# Altium footprint library Optoisolator.PcbLib: 4 footprints
Each footprint in its own frame and in the unit in brackets; x right, y up, seen from the top. Pads: shape width x height; smd on the part's side, far side on the other; paste and mask are expansions set on the pad; w line width, h text height; cw(c..) or ccw(c..) is an arc to the next point about the centre after c.
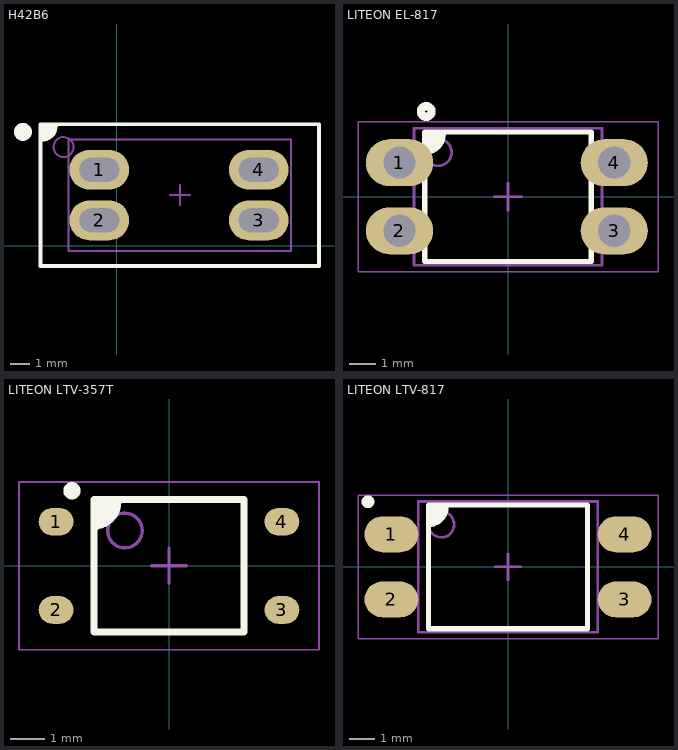
[diagram p0: the footprints below, top view; thin cyan lines are the x and y axes]

## H42B6 [mm]
pads (4):
  oval 3x2 hole 2 slot 1.2 at 90 deg: 1(-0.867,3.81) 2(-0.867,1.27) 3(7.134,1.27) 4(7.134,3.81)
Top Overlay:
  circle w0.5: c-4.699,5.715 r0.2
  region: -3.735,6.096 -3.048,6.096 -3.048,5.715 -3.429,5.334 -3.735,5.334
  lines w0.2: -3.735,5.334 ccw(c-3.735,6.021) -3.048,6.021 ; -3.81,-1.016 10.16,-1.016 10.16,6.096 -3.81,6.096 -3.81,-1.016
Mechanical 13:
  circle w0.1: c-2.667,4.953 r0.5
  lines w0.1: -2.413,-0.254 8.763,-0.254 8.763,5.334 -2.413,5.334 -2.413,-0.254
Mechanical 15:
  lines w0.05: -2.413,-0.26 8.763,-0.26 8.763,5.34 -2.413,5.34 -2.413,-0.26
  lines w0.1: 2.675,2.54 3.675,2.54 ; 3.175,2.04 3.175,3.04
3D body "User Library-UOptocoupler QVA21114.STEP": height 10.89, standoff -9.4, extent -3,-0.635 9.35,5.815

## LITEON EL-817 [mm] "SOP, 4-Leads, Body 4.60x6.50mm, Pitch 2.54mm, IPC Medium Density"
height 4.35
pads (4):
  oval 2.5x1.75 hole 1.2: 1(-4.042,1.27) 2(-4.042,-1.27) 3(3.959,-1.27) 4(3.959,1.27)
Top Overlay:
  circle w0.3: c-3.048,3.175 r0.2
  region: -3.1,2.413 -2.413,2.413 -2.413,2.032 -2.794,1.651 -3.1,1.651
  lines w0.2: -3.1,1.651 ccw(c-3.1,2.338) -2.413,2.338 ; -3.1,-2.413 3.1,-2.413 3.1,2.413 -3.1,2.413 -3.1,-2.413
Mechanical 13:
  circle w0.1: c-2.6,1.65 r0.5
  lines w0.1: -3.5,-2.55 3.5,-2.55 3.5,2.55 -3.5,2.55 -3.5,-2.55
Mechanical 15:
  lines w0.05: -5.588,-2.8 5.588,-2.8 5.588,2.8 -5.588,2.8 -5.588,-2.8
  lines w0.1: -0.5,0 0.5,0 ; 0,-0.5 0,0.5
3D body "User Library-DIP4.STEP": height 3.55, standoff -2.75, extent -3.935,-2.297 3.935,2.297

## LITEON LTV-357T [mm] "SOP, 4-Leads, Body 3.85x4.4mm, Pitch 2.54mm, IPC Medium Density"
height 2.1
pads (4):
  oval 1x0.8 smd: 1(-3.25,1.27) 2(-3.25,-1.27) 3(3.25,-1.27) 4(3.25,1.27)
Top Overlay:
  circle w0.25: c-2.794,2.159 r0.125
  region: -2.159,1.905 -1.472,1.905 -1.472,1.524 -1.853,1.143 -2.159,1.143
  lines w0.2: -2.159,1.143 ccw(c-2.159,1.83) -1.472,1.83 ; -2.159,-1.905 2.159,-1.905 2.159,1.905 -2.159,1.905 -2.159,-1.905
Mechanical 13:
  circle w0.1: c-1.27,1.016 r0.5
  lines w0.1: -2.159,-1.905 2.159,-1.905 2.159,1.905 -2.159,1.905 -2.159,-1.905
Mechanical 15:
  lines w0.05: -4.318,-2.413 4.318,-2.413 4.318,2.413 -4.318,2.413 -4.318,-2.413
  lines w0.1: -0.5,0 0.5,0 ; 0,-0.5 0,0.5
3D body "LTV-357T.STEP": height 2.1, standoff 0, extent -3.514,-1.925 3.514,1.925

## LITEON LTV-817 [mm] "SOP, 4-Leads, Body 4.60x6.50mm, Pitch 2.54mm, IPC Medium Density"
height 4.35
pads (4):
  oval 2.1x1.4 smd: 1(-4.55,1.27) 2(-4.55,-1.27) 3(4.55,-1.27) 4(4.55,1.27)
Top Overlay:
  circle w0.25: c-5.461,2.54 r0.125
  region: -3.1,2.413 -2.413,2.413 -2.413,2.032 -2.794,1.651 -3.1,1.651
  lines w0.2: -3.1,1.651 ccw(c-3.1,2.338) -2.413,2.338 ; -3.1,-2.413 3.1,-2.413 3.1,2.413 -3.1,2.413 -3.1,-2.413
Mechanical 13:
  circle w0.1: c-2.6,1.65 r0.5
  lines w0.1: -3.5,-2.55 3.5,-2.55 3.5,2.55 -3.5,2.55 -3.5,-2.55
Mechanical 15:
  lines w0.05: -5.85,-2.8 5.85,-2.8 5.85,2.8 -5.85,2.8 -5.85,-2.8
  lines w0.1: -0.5,0 0.5,0 ; 0,-0.5 0,0.5
3D body "LTV-817S.STEP": height 3.85, standoff 0, extent -5.098,-2.3 5.098,2.3